# EAGLE library part OPA2340EA/250 (library OMAT_IC)
OPERATIONAL AMPLIFIERS
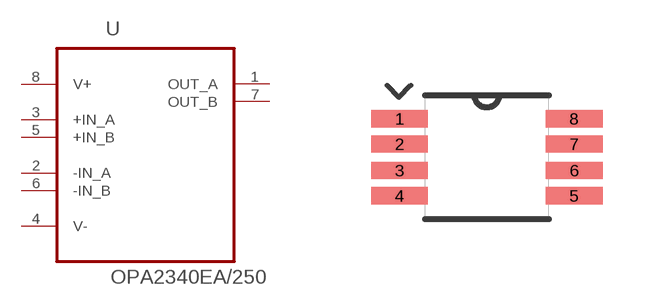
[diagram p9: symbol with the pads of SOP65P490X110-8N; footprint SOP65P490X110-8N]

Designator prefix U

## OPA2340EA/250 (MPN: OPA2340EA/250; OC_FARNELL: 1101540; OC_NEWARK: 36K7580; PACKAGE: MSOP-8; SUPPLIER: Texas Instruments)  [SOP65P490X110-8N]
1  OUT_A  out
2  -IN_A  in
3  +IN_A  in
4  V-  pwr
5  +IN_B  in
6  -IN_B  in
7  OUT_B  out
8  V+  pwr

## Footprint SOP65P490X110-8N (pad centres in mm)
smd 1.422 x 0.432: 1 -2.184,0.965; 2 -2.184,0.33; 3 -2.184,-0.33; 4 -2.184,-0.965; 5 2.184,-0.965; 6 2.184,-0.33; 7 2.184,0.33; 8 2.184,0.965